# EAGLE library part DIP4WAY (library lib_stankus)
DIP 4WAY THRU (Farnell 2452340)
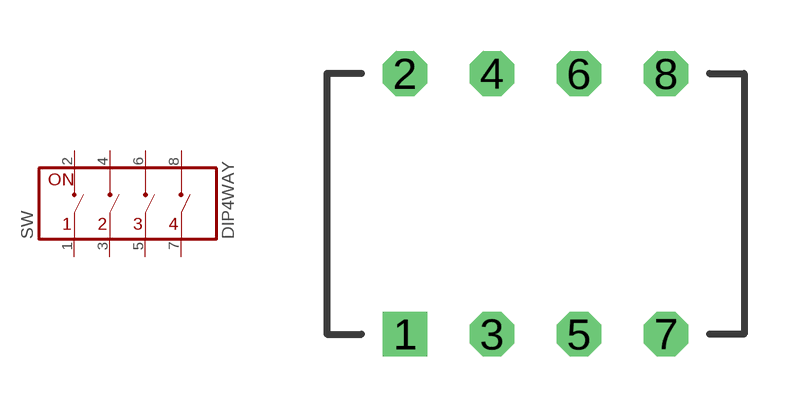
[diagram p107: symbol with the pads of DIP04_THRU; footprint DIP04_THRU]

Designator prefix SW

## DIP4WAY-THRU  [DIP04_THRU]
1  1  pas
2  2  pas
3  3  pas
4  4  pas
5  5  pas
6  6  pas
7  7  pas
8  8  pas

## Footprint DIP04_THRU (pad centres in mm)
DIP04_THRU
drill 0.8 square: 1 -3.81,-3.81
drill 0.8 octagon: 2 -3.81,3.81; 3 -1.27,-3.81; 4 -1.27,3.81; 5 1.27,-3.81; 6 1.27,3.81; 7 3.81,-3.81; 8 3.81,3.81